# Altium footprint library PcbLib1.PcbLib: 9 footprints
Each footprint in its own frame and in the unit in brackets; x right, y up, seen from the top. Pads: shape width x height; smd on the part's side, far side on the other; paste and mask are expansions set on the pad; w line width, h text height; cw(c..) or ccw(c..) is an arc to the next point about the centre after c.
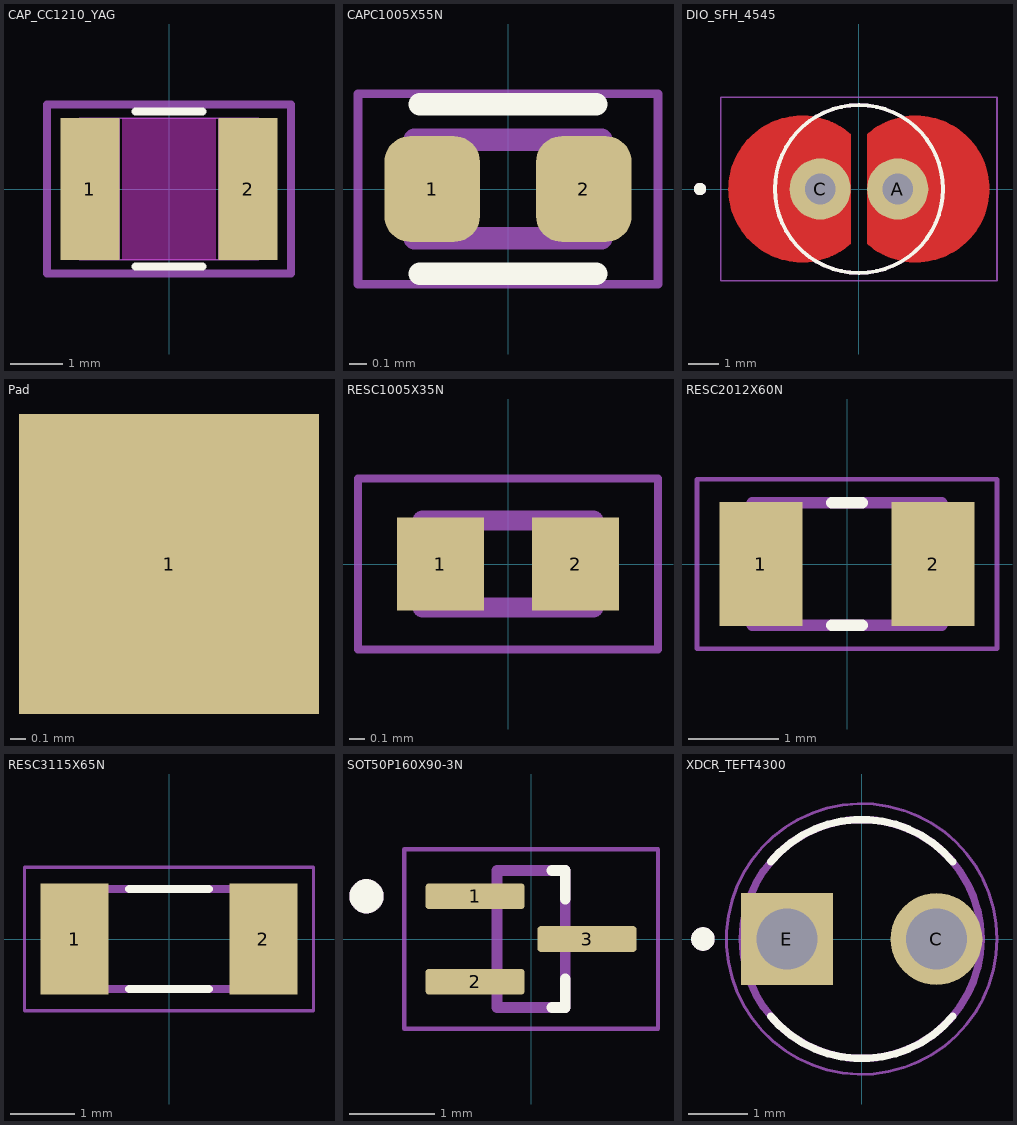
[diagram p0: the footprints below, top view; thin cyan lines are the x and y axes]

## CAP_CC1210_YAG [mil]
pads (2):
  rect 44x106 smd paste+0 mask+0: 1(-59,0) 2(59,0)
Top Layer keep-out:
  region: -35,-51 -35,51 35,51 35,-51
Top Overlay:
  lines w6: -24.89,-58 24.89,-58 ; -24.89,58 24.89,58
Keep-Out Layer:
  region: -35,-53 -35,53 35,53 35,-53
Mechanical 13:
  lines w1: -67,-53 -67,53 ; -67,-53 67,-53 ; -67,-53 -37,-53 -37,53 -67,53 ; -67,-53 -67,53 ; -67,53 67,53 ; 67,-53 67,53 ; 67,-53 67,53 ; 67,-53 37,-53 37,53 67,53
Mechanical 15:
  lines w6: -91,-63 91,-63 91,63 -91,63 -91,-63
3D body "CAP_CC1210_YAG.step": height 105.98, standoff 0, extent -67.01,-52.99 67.01,52.99

## CAPC1005X55N [mm]
pads (2):
  rrect53% 0.54x0.6 smd: 1(-0.43,0) 2(0.43,0)
Top Overlay:
  lines w0.127: -0.5,-0.48 0.5,-0.48 ; -0.5,0.48 0.5,0.48
Mechanical 13:
  lines w0.127: -0.53,-0.28 -0.53,0.28 0.53,0.28 0.53,-0.28 -0.53,-0.28
Mechanical 15:
  lines w0.05: -0.85,-0.54 -0.85,0.54 0.85,0.54 0.85,-0.54 -0.85,-0.54
3D body "step_temp.STEP": height 0.55, standoff 0, extent -0.5,-0.25 0.5,0.25

## DIO_SFH_4545 [mm]
pads (2):
  round 2 hole 1: A(1.27,0) C(-1.27,0)
Top Layer:
  region: 2.028,2.394 2.152,2.383 2.275,2.364 2.398,2.34 2.519,2.309 2.638,2.272 2.755,2.229 2.869,2.179 2.981,2.124 3.09,2.063 3.195,1.997 3.297,1.925 3.396,1.848 3.49,1.766 3.579,1.68 3.664,1.589 3.745,1.493 3.82,1.394 3.89,1.29 3.954,1.184 4.013,1.074 4.066,0.961 4.114,0.846 4.155,0.728 4.19,0.608 4.219,0.487 4.241,0.364 4.257,0.241 4.267,0.116 4.27,0 4.267,-0.116 4.257,-0.241 4.241,-0.364 4.219,-0.487 4.19,-0.608 4.155,-0.728 4.114,-0.846 4.066,-0.961 4.013,-1.074 3.954,-1.184 3.89,-1.29 3.82,-1.394 3.745,-1.493 3.664,-1.589 3.579,-1.68 3.49,-1.766 3.396,-1.848 3.297,-1.925 3.195,-1.997 3.09,-2.063 2.981,-2.124 2.869,-2.179 2.755,-2.229 2.638,-2.272 2.519,-2.309 2.398,-2.34 2.275,-2.364 2.152,-2.383 2.028,-2.394 1.895,-2.4 1.827,-2.4 1.768,-2.399 1.71,-2.396 1.652,-2.392 1.593,-2.387 1.535,-2.38 1.478,-2.371 1.42,-2.361 1.363,-2.35 1.306,-2.337 1.249,-2.323 1.193,-2.307 1.137,-2.29 1.081,-2.272 1.026,-2.252 0.972,-2.231 0.918,-2.209 0.864,-2.185 0.812,-2.16 0.76,-2.133 0.708,-2.105 0.657,-2.076 0.608,-2.046 0.558,-2.014 0.51,-1.982 0.462,-1.948 0.416,-1.912 0.37,-1.876 0.325,-1.839 0.27,-1.79 0.27,0.06 0.27,1.79 0.325,1.839 0.37,1.876 0.416,1.912 0.462,1.948 0.51,1.982 0.558,2.014 0.608,2.046 0.657,2.076 0.708,2.105 0.76,2.133 0.812,2.16 0.864,2.185 0.918,2.209 0.972,2.231 1.026,2.252 1.081,2.272 1.137,2.29 1.193,2.307 1.249,2.323 1.306,2.337 1.363,2.35 1.42,2.361 1.478,2.371 1.535,2.38 1.593,2.387 1.652,2.392 1.71,2.396 1.768,2.399 1.827,2.4 1.895,2.4
  region: -1.768,2.399 -1.71,2.396 -1.652,2.392 -1.593,2.387 -1.535,2.38 -1.478,2.371 -1.42,2.361 -1.363,2.35 -1.306,2.337 -1.249,2.323 -1.193,2.307 -1.137,2.29 -1.081,2.272 -1.026,2.252 -0.972,2.231 -0.918,2.209 -0.864,2.185 -0.812,2.16 -0.76,2.133 -0.708,2.105 -0.657,2.076 -0.608,2.046 -0.558,2.014 -0.51,1.982 -0.462,1.948 -0.416,1.912 -0.37,1.876 -0.325,1.839 -0.27,1.79 -0.27,0.06 -0.27,-1.79 -0.325,-1.839 -0.37,-1.876 -0.416,-1.912 -0.462,-1.948 -0.51,-1.982 -0.558,-2.014 -0.608,-2.046 -0.657,-2.076 -0.708,-2.105 -0.76,-2.133 -0.812,-2.16 -0.864,-2.185 -0.918,-2.209 -0.972,-2.231 -1.026,-2.252 -1.081,-2.272 -1.137,-2.29 -1.193,-2.307 -1.249,-2.323 -1.306,-2.337 -1.363,-2.35 -1.42,-2.361 -1.478,-2.371 -1.535,-2.38 -1.593,-2.387 -1.652,-2.392 -1.71,-2.396 -1.768,-2.399 -1.827,-2.4 -1.895,-2.4 -2.028,-2.394 -2.152,-2.383 -2.275,-2.364 -2.398,-2.34 -2.519,-2.309 -2.638,-2.272 -2.755,-2.229 -2.869,-2.179 -2.981,-2.124 -3.09,-2.063 -3.195,-1.997 -3.297,-1.925 -3.396,-1.848 -3.49,-1.766 -3.579,-1.68 -3.664,-1.589 -3.745,-1.493 -3.82,-1.394 -3.89,-1.29 -3.954,-1.184 -4.013,-1.074 -4.066,-0.961 -4.114,-0.846 -4.155,-0.728 -4.19,-0.608 -4.219,-0.487 -4.241,-0.364 -4.257,-0.241 -4.267,-0.116 -4.27,0 -4.267,0.116 -4.257,0.241 -4.241,0.364 -4.219,0.487 -4.19,0.608 -4.155,0.728 -4.114,0.846 -4.066,0.961 -4.013,1.074 -3.954,1.184 -3.89,1.29 -3.82,1.394 -3.745,1.493 -3.664,1.589 -3.579,1.68 -3.49,1.766 -3.396,1.848 -3.297,1.925 -3.195,1.997 -3.09,2.063 -2.981,2.124 -2.869,2.179 -2.755,2.229 -2.638,2.272 -2.519,2.309 -2.398,2.34 -2.275,2.364 -2.152,2.383 -2.028,2.394 -1.895,2.4 -1.827,2.4
Top Overlay:
  circle w0.127: c0,0 r2.75
  circle w0.2: c-5.2,0 r0.1
Mechanical 13:
  circle w0.127: c0,0 r2.75
  circle w0.2: c-5.2,0 r0.1
Mechanical 15:
  lines w0.05: -4.52,-3 4.52,-3 4.52,3 -4.52,3 -4.52,-3
3D body "step_temp.STEP": height 11.84, standoff -25.46, extent -2.5,-2.755 2.751,2.745

## Pad [mm]
pads (1):
  rect 2x2 smd: 1(-25.127,-32.696)

## RESC1005X35N [mm]
pads (2):
  rect 0.56x0.6 smd: 1(-0.435,0) 2(0.435,0)
Mechanical 13:
  lines w0.127: -0.55,-0.28 0.55,-0.28 0.55,0.28 -0.55,0.28 -0.55,-0.28
Mechanical 15:
  lines w0.05: -0.965,-0.55 0.965,-0.55 0.965,0.55 -0.965,0.55 -0.965,-0.55
3D body "step_temp.STEP": height 0.35, standoff 0, extent -0.5,-0.25 0.5,0.25

## RESC2012X60N [mm]
pads (2):
  rect 0.92x1.38 smd: 1(-0.955,0) 2(0.955,0)
Top Overlay:
  lines w0.127: -0.17,-0.68 0.17,-0.68 ; -0.17,0.68 0.17,0.68
Mechanical 13:
  lines w0.127: -1.05,-0.68 1.05,-0.68 1.05,0.68 -1.05,0.68 -1.05,-0.68
Mechanical 15:
  lines w0.05: -1.665,-0.94 1.665,-0.94 1.665,0.94 -1.665,0.94 -1.665,-0.94
3D body "RESC2012X60N.step": height 0.6, standoff 0, extent -1,-0.625 1,0.625

## RESC3115X65N [mm]
height 0.65
pads (2):
  rect 1.05x1.72 smd paste+0 mask+0.102: 1(-1.46,0) 2(1.46,0)
Top Overlay:
  lines w0.127: -0.615,-0.775 0.615,-0.775 ; -0.615,0.775 0.615,0.775
Mechanical 13:
  lines w0.127: -1.55,-0.775 1.55,-0.775 1.55,0.775 -1.55,0.775 -1.55,-0.775
Mechanical 15:
  lines w0.05: -2.235,-1.11 2.235,-1.11 2.235,1.11 -2.235,1.11 -2.235,-1.11
3D body "step_temp.STEP": height 0.65, standoff 0, extent -1.55,-0.775 1.55,0.775

## SOT50P160X90-3N [mm]
pads (3):
  rrect25% 1.16x0.3 smd: 1(-0.655,0.5) 2(-0.655,-0.5) 3(0.655,0)
Top Overlay:
  circle w0.2: c-1.925,0.5 r0.1
  lines w0.127: 0.245,-0.8 0.4,-0.8 0.4,-0.47 ; 0.245,0.8 0.4,0.8 0.4,0.47
Mechanical 13:
  circle w0.2: c-1.925,0.5 r0.1
  lines w0.127: -0.4,-0.8 -0.4,0.8 0.4,0.8 0.4,-0.8 -0.4,-0.8
Mechanical 15:
  lines w0.05: -1.485,-1.05 1.485,-1.05 1.485,1.05 -1.485,1.05 -1.485,-1.05
3D body "step_temp.STEP": height 0.8, standoff 0, extent -0.8,-0.8 0.8,0.8

## XDCR_TEFT4300 [mm]
height 6.1
pads (2):
  round 1.56 hole 1.04: C(1.27,0)
  rect 1.56x1.56 / inner round 1.56 / far side rect 1.56x1.56 hole 1.04: E(-1.27,0)
Top Overlay:
  circle w0.2: c-2.7,0 r0.1
  lines w0.127: -1.55,-1.31 ccw(c0,-0.009) 1.55,-1.31 ; -1.55,1.31 cw(c0,0.009) 1.55,1.31
Mechanical 13:
  circle w0.2: c-2.7,0 r0.1
  circle w0.127: c0,0 r2.03
Mechanical 15:
  circle w0.05: c0,0 r2.3
3D body "step_temp.STEP": height 6.1, standoff -28.8, extent -1.6,-1.95 1.6,1.95